# EAGLE library part USB2422 (library Microchip)
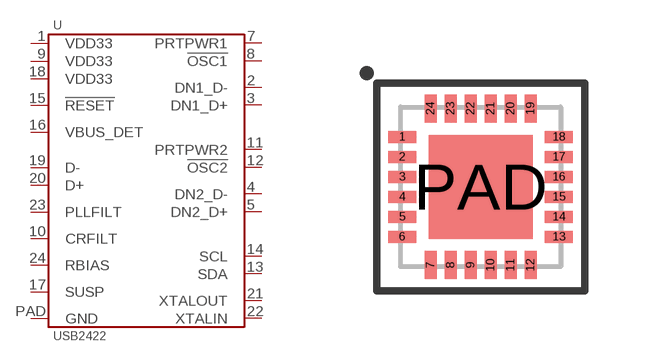
[diagram p26: symbol with the pads of VQFN-24-4MM; footprint VQFN-24-4MM]

Designator prefix U

## USB2422/MJ  [VQFN-24-4MM]
1  VDD33
2  DN1_D-
3  DN1_D+
4  DN2_D-
5  DN2_D+
7  PRTPWR1
8  !OSC1
9  VDD33
10  CRFILT
11  PRTPWR2
12  !OSC2
13  SDA
14  SCL
15  !RESET
16  VBUS_DET
17  SUSP
18  VDD33
19  D-
20  D+
21  XTALOUT
22  XTALIN
23  PLLFILT
24  RBIAS
PAD  GND

## Footprint VQFN-24-4MM (pad centres in mm)
smd 0.7 x 0.3: 1 -1.96,1.25; 2 -1.96,0.75; 3 -1.96,0.25; 4 -1.96,-0.25; 5 -1.96,-0.75; 6 -1.96,-1.25; 13 1.96,-1.25; 14 1.96,-0.75; 15 1.96,-0.25; 16 1.96,0.25; 17 1.96,0.75; 18 1.96,1.25
smd 0.3 x 0.7: 7 -1.25,-1.96; 8 -0.75,-1.96; 9 -0.25,-1.96; 10 0.25,-1.96; 11 0.75,-1.96; 12 1.25,-1.96; 19 1.25,1.96; 20 0.75,1.96; 21 0.25,1.96; 22 -0.25,1.96; 23 -0.75,1.96; 24 -1.25,1.96
smd 2.6 x 2.6: PAD 0,0